# Altium schematic symbol library Diodes.SchLib: 24 symbols
Pins are listed as number, name and electrical type; pins without a type are passive.

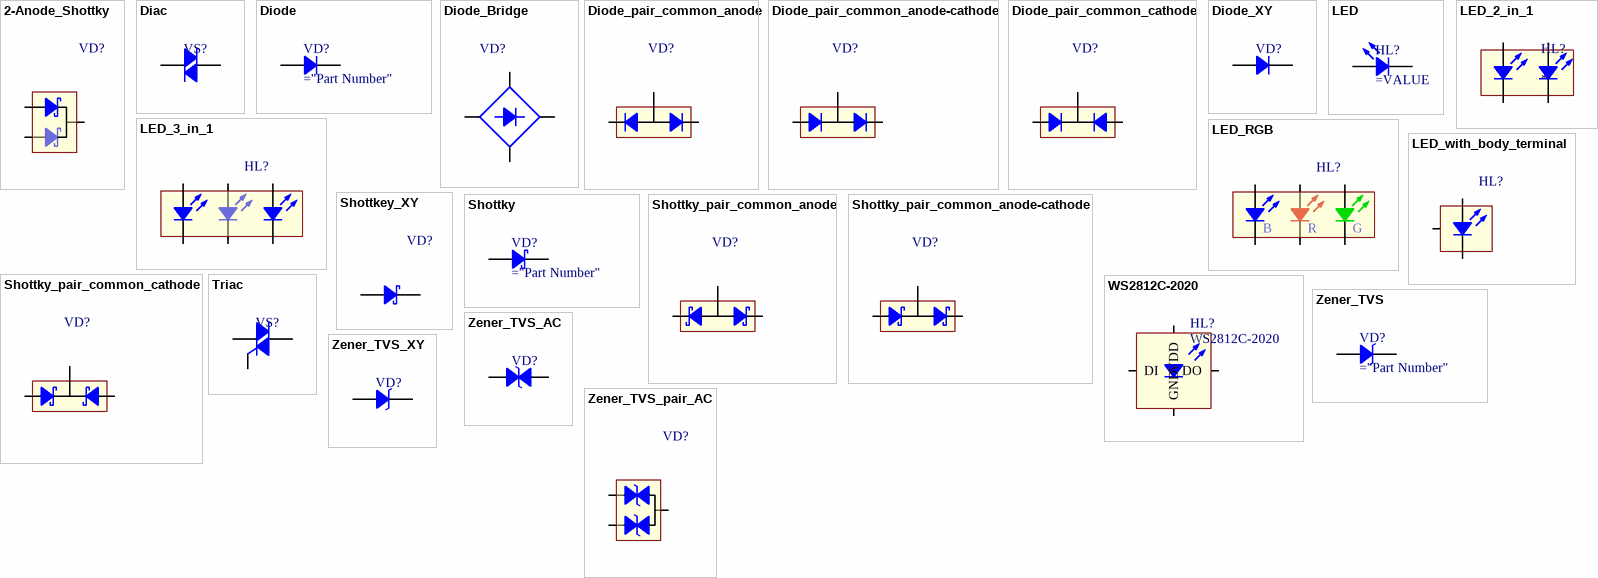
[diagram p0: symbols 2-Anode_Shottky to Zener_TVS_XY]

## 2-Anode_Shottky
designator VD?
Common-cathode diode, X,Z-A, Y-C
pins: X A, Y C, Z A

## Diac
designator VS?
pins: 1 A1, 2 A2

## Diode
designator VD?
Rectifier Diode
pins: A, C

## Diode_Bridge
designator VD?
footprint TO-269AA (MBS)
pins: + (power), - (power), AC1 (power), AC2 (power)

## Diode_pair_common_anode
designator VD?
Diode pair, SOT-23
pins: X A1, Y C1A2, Z C2

## Diode_pair_common_anode-cathode
designator VD?
Diode pair, SOT-23
pins: X A1, Y C1A2, Z C2

## Diode_pair_common_cathode
designator VD?
Diode pair, SOT-23
pins: X A1, Y C1A2, Z C2

## Diode_XY
designator VD?
X-A, Y-C (SOT-23)
pins: X A, Y C

## LED
designator HL?
Chip LED
pins: A, C

## LED_2_in_1
designator HL?
pins: A1, A2, C1, C2

## LED_3_in_1
designator HL?
pins: A1, A2, A3, C1, C2, C3

## LED_RGB
designator HL?
pins: A1, A2, A3, C1, C2, C3
text: B; R; G

## LED_with_body_terminal
designator HL?
pins: A, Body, C

## Shottkey_XY
designator VD?
X-A, Y-C (SOT-23)
pins: X A, Y C

## Shottky
designator VD?
Zener Diode
pins: A, C

## Shottky_pair_common_anode
designator VD?
Diode pair, SOT-23
pins: X A1, Y C1A2, Z C2

## Shottky_pair_common_anode-cathode
designator VD?
Diode pair, SOT-23
pins: X A1, Y C1A2, Z C2

## Shottky_pair_common_cathode
designator VD?
Diode pair, SOT-23
pins: X A1, Y C1A2, Z C2

## Triac
designator VS?
X-A1, Y-A2, Z-G
pins: X A1, Y A2, Z G

## WS2812C-2020
designator HL?
Intelligent control LED / integrated light source
pins: + VDD, - GND, I DI, O DO

## Zener_TVS
designator VD?
Zener Diode
pins: A, C

## Zener_TVS_AC
designator VD?
Zener Diode
pins: 1 A1, 2 A2

## Zener_TVS_pair_AC
designator VD?
Diode pair, SOT-23
pins: X A1, Y C1A2, Z C2

## Zener_TVS_XY
designator VD?
X-A, Y-C (SOT-23)
pins: X A, Y C